# EAGLE library part MEC1-150-02-F-D-A (library Samtec MEC1-150-02)
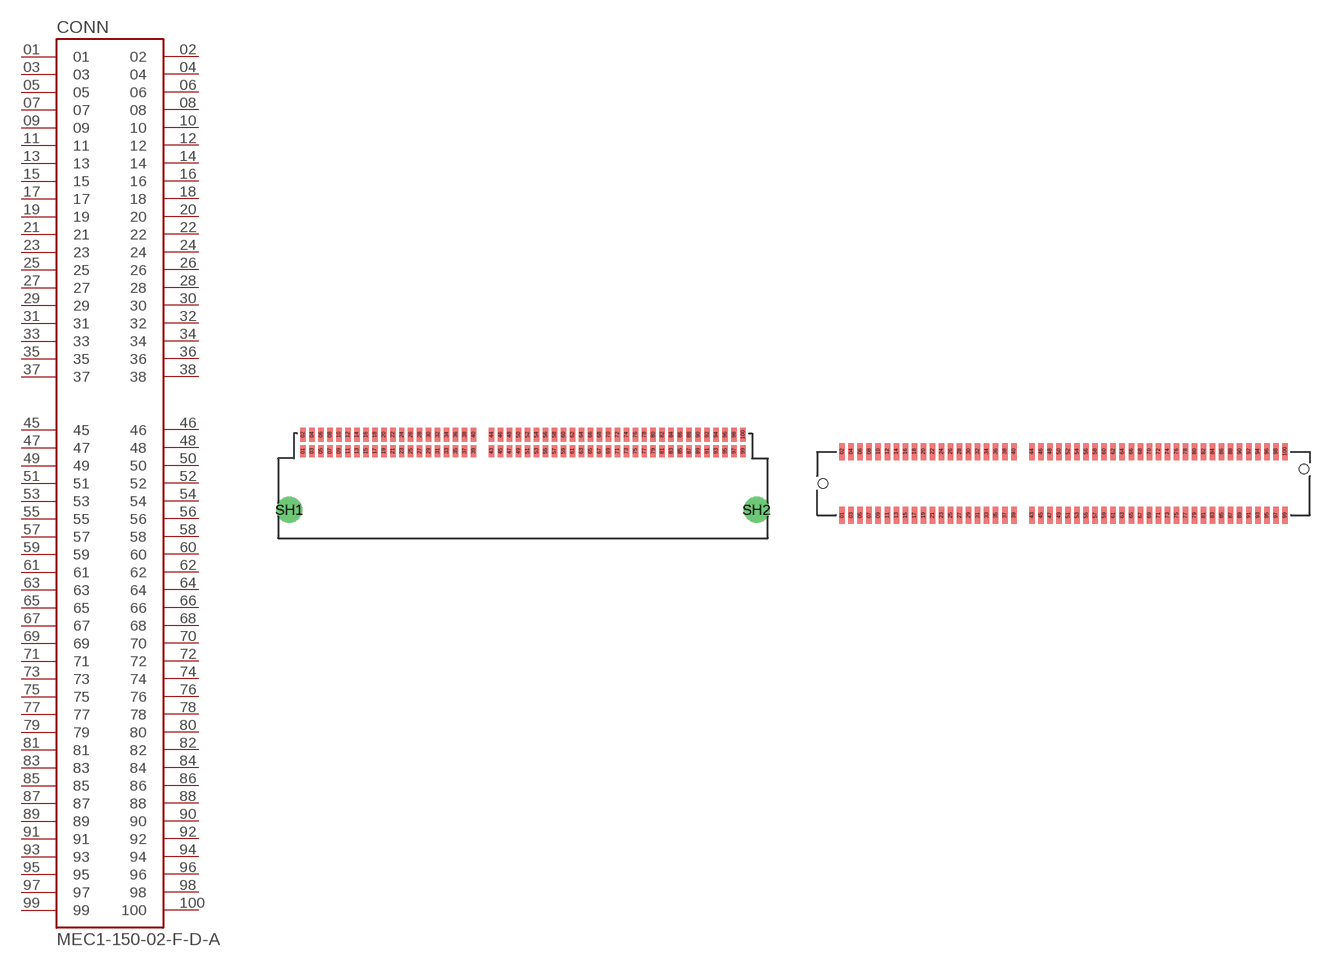
[diagram p0: symbol with the pads of MEC1-150-02-F-D-RA1-SL; footprints MEC1-150-02-F-D-RA1-SL, MEC1-150-02-F-D-A]

Designator prefix CONN

## MEC1-150-02-F-D-A (MANUFACTURER: Samtec; PARTREV: N; STANDARD: Manufacturer Recommendations)  [MEC1-150-02-F-D-RA1-SL]
01  01  pas
02  02  pas
03  03  pas
04  04  pas
05  05  pas
06  06  pas
07  07  pas
08  08  pas
09  09  pas
10  10  pas
11  11  pas
12  12  pas
13  13  pas
14  14  pas
15  15  pas
16  16  pas
17  17  pas
18  18  pas
19  19  pas
20  20  pas
21  21  pas
22  22  pas
23  23  pas
24  24  pas
25  25  pas
26  26  pas
27  27  pas
28  28  pas
29  29  pas
30  30  pas
31  31  pas
32  32  pas
33  33  pas
34  34  pas
35  35  pas
36  36  pas
37  37  pas
38  38  pas
45  45  pas
46  46  pas
47  47  pas
48  48  pas
49  49  pas
50  50  pas
51  51  pas
52  52  pas
53  53  pas
54  54  pas
55  55  pas
56  56  pas
57  57  pas
58  58  pas
59  59  pas
60  60  pas
61  61  pas
62  62  pas
63  63  pas
64  64  pas
65  65  pas
66  66  pas
67  67  pas
68  68  pas
69  69  pas
70  70  pas
71  71  pas
72  72  pas
73  73  pas
74  74  pas
75  75  pas
76  76  pas
77  77  pas
78  78  pas
79  79  pas
80  80  pas
81  81  pas
82  82  pas
83  83  pas
84  84  pas
85  85  pas
86  86  pas
87  87  pas
88  88  pas
89  89  pas
90  90  pas
91  91  pas
92  92  pas
93  93  pas
94  94  pas
95  95  pas
96  96  pas
97  97  pas
98  98  pas
99  99  pas
100  100  pas

## MEC1-150-02-F-D-AMEC1-150-02-F-D-A  [MEC1-150-02-F-D-A]
Pads as for MEC1-150-02-F-D-RA1-SL

## MEC1-150-02-F-D-AMEC1-150-02-F-D-COMBINED  [MEC1-150-02-F-D-COMBINED]
01  01  pas
03  03  pas
05  05  pas
07  07  pas
09  09  pas
11  11  pas
13  13  pas
15  15  pas
17  17  pas
19  19  pas
21  21  pas
23  23  pas
25  25  pas
27  27  pas
29  29  pas
31  31  pas
33  33  pas
35  35  pas
37  37  pas
45  45  pas
47  47  pas
49  49  pas
51  51  pas
53  53  pas
55  55  pas
57  57  pas
59  59  pas
61  61  pas
63  63  pas
65  65  pas
67  67  pas
69  69  pas
71  71  pas
73  73  pas
75  75  pas
77  77  pas
79  79  pas
81  81  pas
83  83  pas
85  85  pas
87  87  pas
89  89  pas
91  91  pas
93  93  pas
95  95  pas
97  97  pas
99  99  pas
R01  01  pas
R03  03  pas
R05  05  pas
R07  07  pas
R09  09  pas
R11  11  pas
R13  13  pas
R15  15  pas
R17  17  pas
R19  19  pas
R21  21  pas
R23  23  pas
R25  25  pas
R27  27  pas
R29  29  pas
R31  31  pas
R33  33  pas
R35  35  pas
R37  37  pas
R45  45  pas
R47  47  pas
R49  49  pas
R51  51  pas
R53  53  pas
R55  55  pas
R57  57  pas
R59  59  pas
R61  61  pas
R63  63  pas
R65  65  pas
R67  67  pas
R69  69  pas
R71  71  pas
R73  73  pas
R75  75  pas
R77  77  pas
R79  79  pas
R81  81  pas
R83  83  pas
R85  85  pas
R87  87  pas
R89  89  pas
R91  91  pas
R93  93  pas
R95  95  pas
R97  97  pas
R99  99  pas
S02  02  pas
S04  04  pas
S06  06  pas
S08  08  pas
S10  10  pas
S12  12  pas
S14  14  pas
S16  16  pas
S18  18  pas
S20  20  pas
S22  22  pas
S24  24  pas
S26  26  pas
S28  28  pas
S30  30  pas
S32  32  pas
S34  34  pas
S36  36  pas
S38  38  pas
S46  46  pas
S48  48  pas
S50  50  pas
S52  52  pas
S54  54  pas
S56  56  pas
S58  58  pas
S60  60  pas
S62  62  pas
S64  64  pas
S66  66  pas
S68  68  pas
S70  70  pas
S72  72  pas
S74  74  pas
S76  76  pas
S78  78  pas
S80  80  pas
S82  82  pas
S84  84  pas
S86  86  pas
S88  88  pas
S90  90  pas
S92  92  pas
S94  94  pas
S96  96  pas
S98  98  pas
S100  100  pas

## Footprint MEC1-150-02-F-D-RA1-SL (pad centres in mm)
smd 0.61 x 1.35: 01 -19.42,2.707; 03 -18.42,2.707; 05 -17.42,2.707; 07 -16.42,2.707; 09 -15.42,2.707; 11 -14.42,2.707; 13 -13.42,2.707; 15 -12.42,2.707; 17 -11.42,2.707; 19 -10.42,2.707; 21 -9.42,2.707; 23 -8.42,2.707; 25 -7.42,2.707; 27 -6.42,2.707; 29 -5.42,2.707; 31 -4.42,2.707; 33 -3.42,2.707; 35 -2.42,2.707; 37 -1.42,2.707; 39 -0.42,2.707; 43 1.58,2.707; 45 2.58,2.707; 47 3.58,2.707; 49 4.58,2.707; 51 5.58,2.707; 53 6.58,2.707; 55 7.58,2.707; 57 8.58,2.707; 59 9.58,2.707; 61 10.58,2.707; 63 11.58,2.707; 65 12.58,2.707; 67 13.58,2.707; 69 14.58,2.707; 71 15.58,2.707; 73 16.58,2.707; 75 17.58,2.707; 77 18.58,2.707; 79 19.58,2.707; 81 20.58,2.707; 83 21.58,2.707; 85 22.58,2.707; 87 23.58,2.707; 89 24.58,2.707; 91 25.58,2.707; 93 26.58,2.707; 95 27.58,2.707; 97 28.58,2.707; 99 29.58,2.707
smd 0.61 x 1.52: 02 -19.42,4.522; 04 -18.42,4.522; 06 -17.42,4.522; 08 -16.42,4.522; 10 -15.42,4.522; 12 -14.42,4.522; 14 -13.42,4.522; 16 -12.42,4.522; 18 -11.42,4.522; 20 -10.42,4.522; 22 -9.42,4.522; 24 -8.42,4.522; 26 -7.42,4.522; 28 -6.42,4.522; 30 -5.42,4.522; 32 -4.42,4.522; 34 -3.42,4.522; 36 -2.42,4.522; 38 -1.42,4.522; 40 -0.42,4.522; 44 1.58,4.522; 46 2.58,4.522; 48 3.58,4.522; 50 4.58,4.522; 52 5.58,4.522; 54 6.58,4.522; 56 7.58,4.522; 58 8.58,4.522; 60 9.58,4.522; 62 10.58,4.522; 64 11.58,4.522; 66 12.58,4.522; 68 13.58,4.522; 70 14.58,4.522; 72 15.58,4.522; 74 16.58,4.522; 76 17.58,4.522; 78 18.58,4.522; 80 19.58,4.522; 82 20.58,4.522; 84 21.58,4.522; 86 22.58,4.522; 88 23.58,4.522; 90 24.58,4.522; 92 25.58,4.522; 94 26.58,4.522; 96 27.58,4.522; 98 28.58,4.522; 100 29.58,4.522
drill 1.93 pad 2.21: SH1 -20.92,-3.81; SH2 31.08,-3.81

## Footprint MEC1-150-02-F-D-A (pad centres in mm)
smd 0.61 x 1.88: 01 -19.42,-3.53; 02 -19.42,3.53; 03 -18.42,-3.53; 04 -18.42,3.53; 05 -17.42,-3.53; 06 -17.42,3.53; 07 -16.42,-3.53; 08 -16.42,3.53; 09 -15.42,-3.53; 10 -15.42,3.53; 11 -14.42,-3.53; 12 -14.42,3.53; 13 -13.42,-3.53; 14 -13.42,3.53; 15 -12.42,-3.53; 16 -12.42,3.53; 17 -11.42,-3.53; 18 -11.42,3.53; 19 -10.42,-3.53; 20 -10.42,3.53; 21 -9.42,-3.53; 22 -9.42,3.53; 23 -8.42,-3.53; 24 -8.42,3.53; 25 -7.42,-3.53; 26 -7.42,3.53; 27 -6.42,-3.53; 28 -6.42,3.53; 29 -5.42,-3.53; 30 -5.42,3.53; 31 -4.42,-3.53; 32 -4.42,3.53; 33 -3.42,-3.53; 34 -3.42,3.53; 35 -2.42,-3.53; 36 -2.42,3.53; 37 -1.42,-3.53; 38 -1.42,3.53; 39 -0.42,-3.53; 40 -0.42,3.53; 43 1.58,-3.53; 44 1.58,3.53; 45 2.58,-3.53; 46 2.58,3.53; 47 3.58,-3.53; 48 3.58,3.53; 49 4.58,-3.53; 50 4.58,3.53; 51 5.58,-3.53; 52 5.58,3.53; 53 6.58,-3.53; 54 6.58,3.53; 55 7.58,-3.53; 56 7.58,3.53; 57 8.58,-3.53; 58 8.58,3.53; 59 9.58,-3.53; 60 9.58,3.53; 61 10.58,-3.53; 62 10.58,3.53; 63 11.58,-3.53; 64 11.58,3.53; 65 12.58,-3.53; 66 12.58,3.53; 67 13.58,-3.53; 68 13.58,3.53; 69 14.58,-3.53; 70 14.58,3.53; 71 15.58,-3.53; 72 15.58,3.53; 73 16.58,-3.53; 74 16.58,3.53; 75 17.58,-3.53; 76 17.58,3.53; 77 18.58,-3.53; 78 18.58,3.53; 79 19.58,-3.53; 80 19.58,3.53; 81 20.58,-3.53; 82 20.58,3.53; 83 21.58,-3.53; 84 21.58,3.53; 85 22.58,-3.53; 86 22.58,3.53; 87 23.58,-3.53; 88 23.58,3.53; 89 24.58,-3.53; 90 24.58,3.53; 91 25.58,-3.53; 92 25.58,3.53; 93 26.58,-3.53; 94 26.58,3.53; 95 27.58,-3.53; 96 27.58,3.53; 97 28.58,-3.53; 98 28.58,3.53; 99 29.58,-3.53; 100 29.58,3.53
hole 1.02 at 31.703,1.588
hole 1.02 at -21.543,0

## Footprint MEC1-150-02-F-D-COMBINED (pad centres in mm)
smd 0.61 x 1.88: 01 -19.42,-2.711; 03 -18.42,-2.711; 05 -17.42,-2.711; 07 -16.42,-2.711; 09 -15.42,-2.711; 11 -14.42,-2.711; 13 -13.42,-2.711; 15 -12.42,-2.711; 17 -11.42,-2.711; 19 -10.42,-2.711; 21 -9.42,-2.711; 23 -8.42,-2.711; 25 -7.42,-2.711; 27 -6.42,-2.711; 29 -5.42,-2.711; 31 -4.42,-2.711; 33 -3.42,-2.711; 35 -2.42,-2.711; 37 -1.42,-2.711; 39 -0.42,-2.711; 43 1.58,-2.711; 45 2.58,-2.711; 47 3.58,-2.711; 49 4.58,-2.711; 51 5.58,-2.711; 53 6.58,-2.711; 55 7.58,-2.711; 57 8.58,-2.711; 59 9.58,-2.711; 61 10.58,-2.711; 63 11.58,-2.711; 65 12.58,-2.711; 67 13.58,-2.711; 69 14.58,-2.711; 71 15.58,-2.711; 73 16.58,-2.711; 75 17.58,-2.711; 77 18.58,-2.711; 79 19.58,-2.711; 81 20.58,-2.711; 83 21.58,-2.711; 85 22.58,-2.711; 87 23.58,-2.711; 89 24.58,-2.711; 91 25.58,-2.711; 93 26.58,-2.711; 95 27.58,-2.711; 97 28.58,-2.711; 99 29.58,-2.711
smd 0.61 x 1.35: R01 -19.42,2.707; R03 -18.42,2.707; R05 -17.42,2.707; R07 -16.42,2.707; R09 -15.42,2.707; R11 -14.42,2.707; R13 -13.42,2.707; R15 -12.42,2.707; R17 -11.42,2.707; R19 -10.42,2.707; R21 -9.42,2.707; R23 -8.42,2.707; R25 -7.42,2.707; R27 -6.42,2.707; R29 -5.42,2.707; R31 -4.42,2.707; R33 -3.42,2.707; R35 -2.42,2.707; R37 -1.42,2.707; R39 -0.42,2.707; R43 1.58,2.707; R45 2.58,2.707; R47 3.58,2.707; R49 4.58,2.707; R51 5.58,2.707; R53 6.58,2.707; R55 7.58,2.707; R57 8.58,2.707; R59 9.58,2.707; R61 10.58,2.707; R63 11.58,2.707; R65 12.58,2.707; R67 13.58,2.707; R69 14.58,2.707; R71 15.58,2.707; R73 16.58,2.707; R75 17.58,2.707; R77 18.58,2.707; R79 19.58,2.707; R81 20.58,2.707; R83 21.58,2.707; R85 22.58,2.707; R87 23.58,2.707; R89 24.58,2.707; R91 25.58,2.707; R93 26.58,2.707; R95 27.58,2.707; R97 28.58,2.707; R99 29.58,2.707
smd 0.61 x 1.52: S02 -19.42,4.522; S04 -18.42,4.522; S06 -17.42,4.522; S08 -16.42,4.522; S10 -15.42,4.522; S12 -14.42,4.522; S14 -13.42,4.522; S16 -12.42,4.522; S18 -11.42,4.522; S20 -10.42,4.522; S22 -9.42,4.522; S24 -8.42,4.522; S26 -7.42,4.522; S28 -6.42,4.522; S30 -5.42,4.522; S32 -4.42,4.522; S34 -3.42,4.522; S36 -2.42,4.522; S38 -1.42,4.522; S40 -0.42,4.522; S44 1.58,4.522; S46 2.58,4.522; S48 3.58,4.522; S50 4.58,4.522; S52 5.58,4.522; S54 6.58,4.522; S56 7.58,4.522; S58 8.58,4.522; S60 9.58,4.522; S62 10.58,4.522; S64 11.58,4.522; S66 12.58,4.522; S68 13.58,4.522; S70 14.58,4.522; S72 15.58,4.522; S74 16.58,4.522; S76 17.58,4.522; S78 18.58,4.522; S80 19.58,4.522; S82 20.58,4.522; S84 21.58,4.522; S86 22.58,4.522; S88 23.58,4.522; S90 24.58,4.522; S92 25.58,4.522; S94 26.58,4.522; S96 27.58,4.522; S98 28.58,4.522; S100 29.58,4.522
drill 1.93 pad 2.21: SH1 -20.92,-3.81; SH2 31.08,-3.81
hole 1.02 at 31.703,2.408
hole 1.02 at -21.543,0.82